# EAGLE library part 5CEBA2F17 (library ic-Altera)
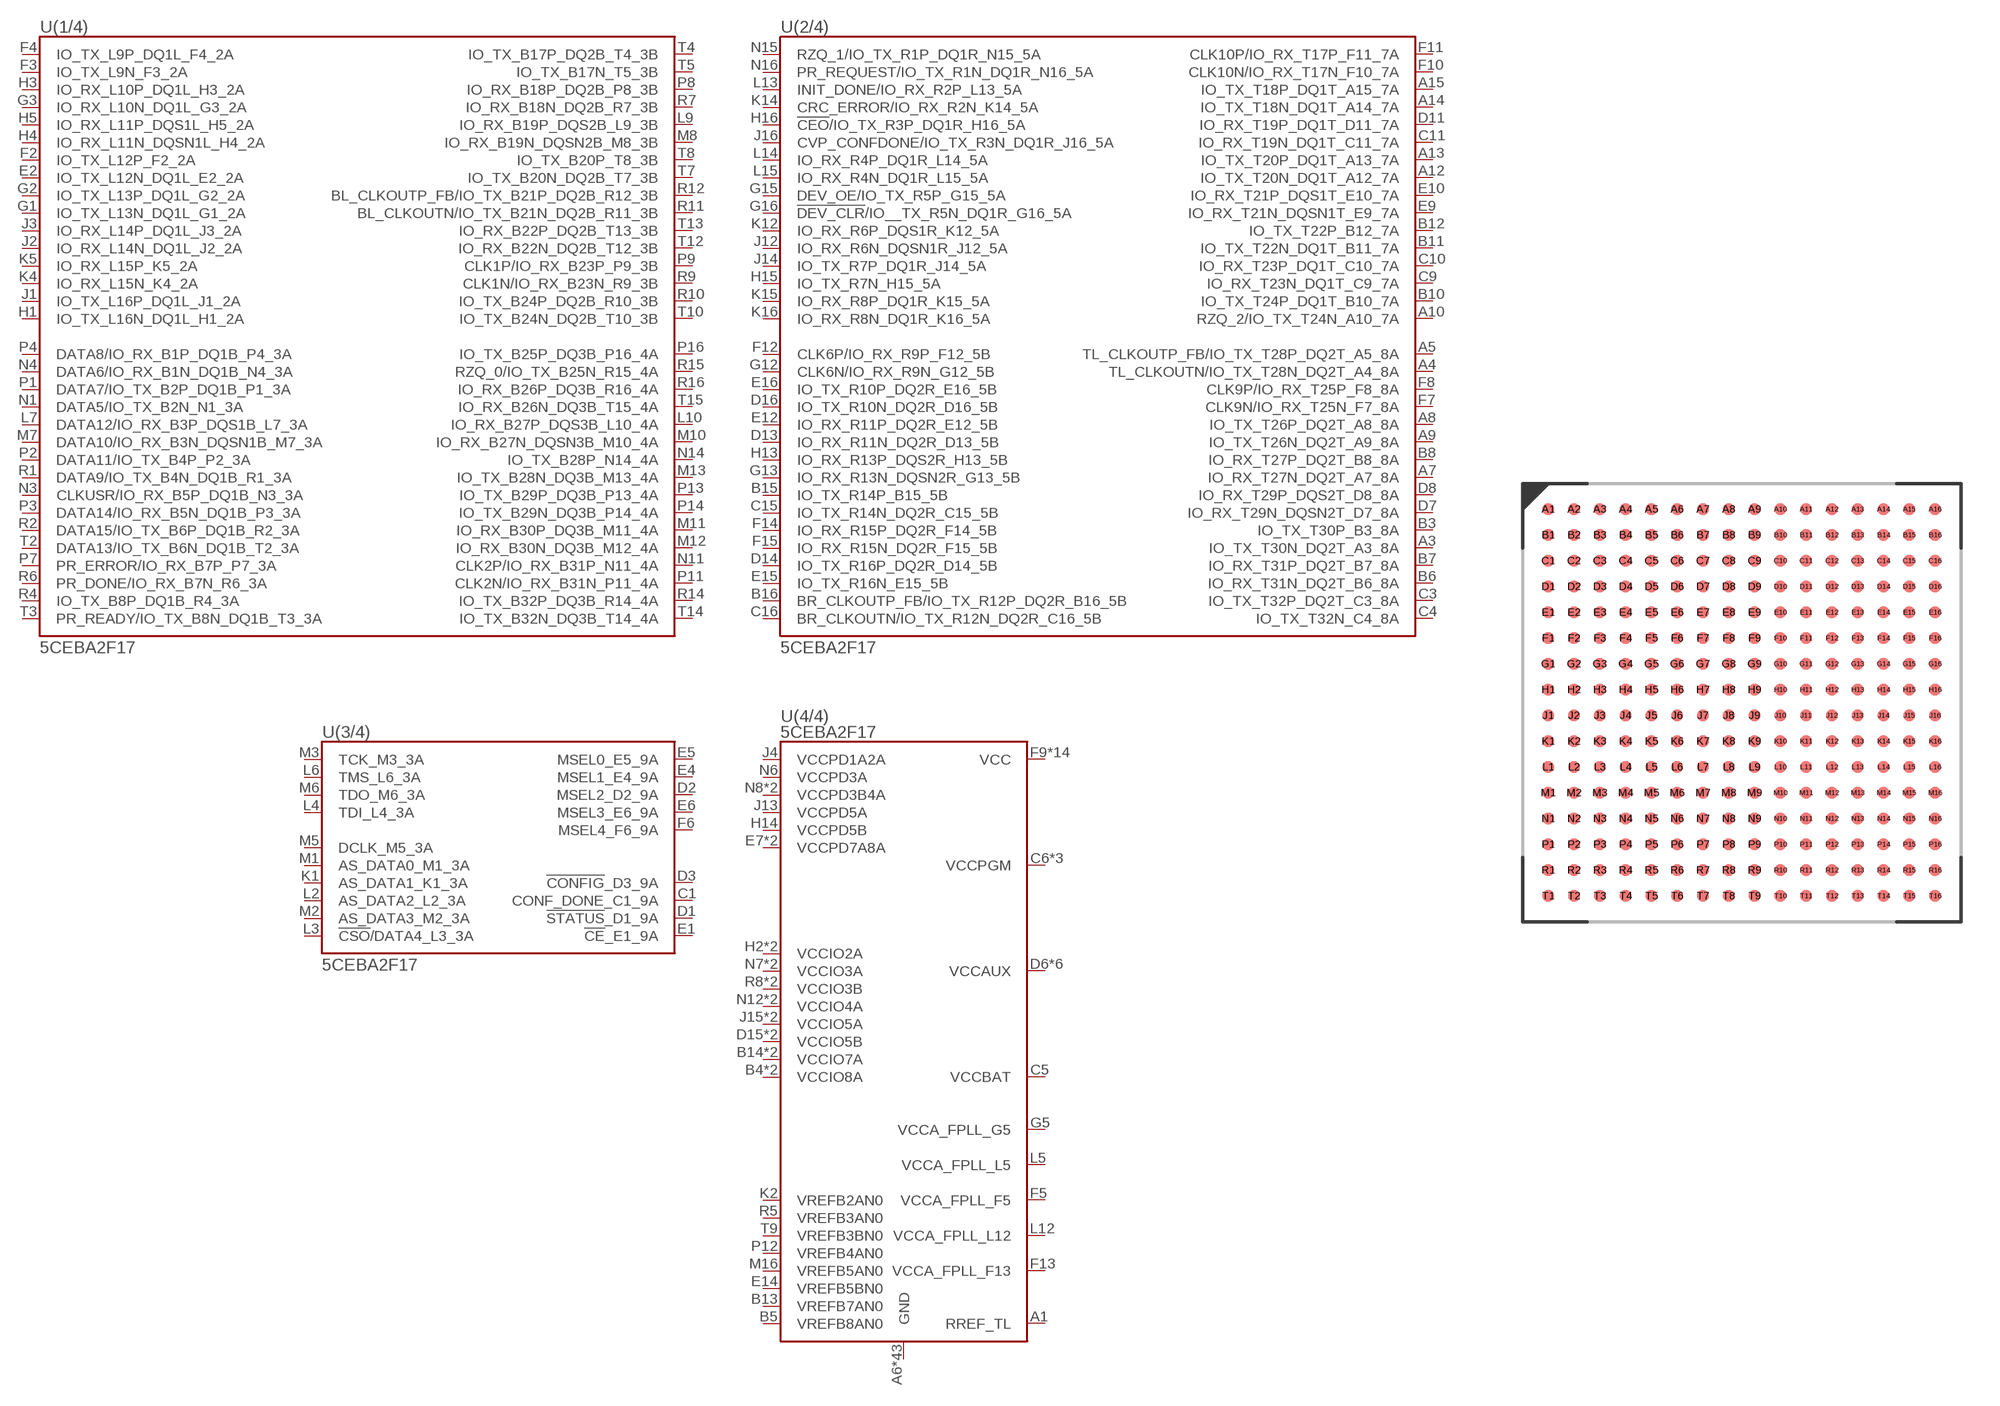
[diagram p8: symbol with the pads of 5CEBA2-F256; footprint 5CEBA2-F256]

Designator prefix U; gates (1/4)=5CEBA2-F256-1 (2/4)=5CEBA2-F256-2 (3/4)=5CEBA2-F256-3 (4/4)=5CEBA2-F256-4

## 5CEBA2F17  [5CEBA2-F256]
A1  (4/4):RREF_TL
A3  (2/4):IO_TX_T30N_DQ2T_A3_8A
A4  (2/4):TL_CLKOUTN/IO_TX_T28N_DQ2T_A4_8A
A5  (2/4):TL_CLKOUTP_FB/IO_TX_T28P_DQ2T_A5_8A
A6  (4/4):GND
A7  (2/4):IO_RX_T27N_DQ2T_A7_8A
A8  (2/4):IO_TX_T26P_DQ2T_A8_8A
A9  (2/4):IO_TX_T26N_DQ2T_A9_8A
A10  (2/4):RZQ_2/IO_TX_T24N_A10_7A
A11  (4/4):GND
A12  (2/4):IO_TX_T20N_DQ1T_A12_7A
A13  (2/4):IO_TX_T20P_DQ1T_A13_7A
A14  (2/4):IO_TX_T18N_DQ1T_A14_7A
A15  (2/4):IO_TX_T18P_DQ1T_A15_7A
A16  (4/4):GND
B1  (4/4):GND
B3  (2/4):IO_TX_T30P_B3_8A
B4  (4/4):VCCIO8A
B5  (4/4):VREFB8AN0
B6  (2/4):IO_RX_T31N_DQ2T_B6_8A
B7  (2/4):IO_RX_T31P_DQ2T_B7_8A
B8  (2/4):IO_RX_T27P_DQ2T_B8_8A
B9  (4/4):GND
B10  (2/4):IO_TX_T24P_DQ1T_B10_7A
B11  (2/4):IO_TX_T22N_DQ1T_B11_7A
B12  (2/4):IO_TX_T22P_B12_7A
B13  (4/4):VREFB7AN0
B14  (4/4):VCCIO7A
B15  (2/4):IO_TX_R14P_B15_5B
B16  (2/4):BR_CLKOUTP_FB/IO_TX_R12P_DQ2R_B16_5B
C1  (3/4):CONF_DONE_C1_9A
C2  (4/4):GND
C3  (2/4):IO_TX_T32P_DQ2T_C3_8A
C4  (2/4):IO_TX_T32N_C4_8A
C5  (4/4):VCCBAT
C6  (4/4):VCCPGM
C7  (4/4):VCCIO8A
C9  (2/4):IO_RX_T23N_DQ1T_C9_7A
C10  (2/4):IO_RX_T23P_DQ1T_C10_7A
C11  (2/4):IO_RX_T19N_DQ1T_C11_7A
C12  (4/4):VCCIO7A
C14  (4/4):GND
C15  (2/4):IO_TX_R14N_DQ2R_C15_5B
C16  (2/4):BR_CLKOUTN/IO_TX_R12N_DQ2R_C16_5B
D1  (3/4):!STATUS!_D1_9A
D2  (3/4):MSEL2_D2_9A
D3  (3/4):!CONFIG!_D3_9A
D4  (4/4):GND
D5  (4/4):GND
D6  (4/4):VCCAUX
D7  (2/4):IO_RX_T29N_DQSN2T_D7_8A
D8  (2/4):IO_RX_T29P_DQS2T_D8_8A
D9  (4/4):VCCAUX
D10  (4/4):GND
D11  (2/4):IO_RX_T19P_DQ1T_D11_7A
D12  (4/4):VCCAUX
D13  (2/4):IO_RX_R11N_DQ2R_D13_5B
D14  (2/4):IO_TX_R16P_DQ2R_D14_5B
D15  (4/4):VCCIO5B
D16  (2/4):IO_TX_R10N_DQ2R_D16_5B
E1  (3/4):!CE!_E1_9A
E2  (1/4):IO_TX_L12N_DQ1L_E2_2A
E3  (4/4):GND
E4  (3/4):MSEL1_E4_9A
E5  (3/4):MSEL0_E5_9A
E6  (3/4):MSEL3_E6_9A
E7  (4/4):VCCPD7A8A
E8  (4/4):GND
E9  (2/4):IO_RX_T21N_DQSN1T_E9_7A
E10  (2/4):IO_RX_T21P_DQS1T_E10_7A
E11  (4/4):VCCPD7A8A
E12  (2/4):IO_RX_R11P_DQ2R_E12_5B
E13  (4/4):GND
E14  (4/4):VREFB5BN0
E15  (2/4):IO_TX_R16N_E15_5B
E16  (2/4):IO_TX_R10P_DQ2R_E16_5B
F1  (4/4):GND
F2  (1/4):IO_TX_L12P_F2_2A
F3  (1/4):IO_TX_L9N_F3_2A
F4  (1/4):IO_TX_L9P_DQ1L_F4_2A
F5  (4/4):VCCA_FPLL_F5
F6  (3/4):MSEL4_F6_9A
F7  (2/4):CLK9N/IO_RX_T25N_F7_8A
F8  (2/4):CLK9P/IO_RX_T25P_F8_8A
F9  (4/4):VCC
F10  (2/4):CLK10N/IO_RX_T17N_F10_7A
F11  (2/4):CLK10P/IO_RX_T17P_F11_7A
F12  (2/4):CLK6P/IO_RX_R9P_F12_5B
F13  (4/4):VCCA_FPLL_F13
F14  (2/4):IO_RX_R15P_DQ2R_F14_5B
F15  (2/4):IO_RX_R15N_DQ2R_F15_5B
F16  (4/4):GND
G1  (1/4):IO_TX_L13N_DQ1L_G1_2A
G2  (1/4):IO_TX_L13P_DQ1L_G2_2A
G3  (1/4):IO_RX_L10N_DQ1L_G3_2A
G4  (4/4):GND
G5  (4/4):VCCA_FPLL_G5
G6  (4/4):VCC
G7  (4/4):GND
G8  (4/4):VCC
G9  (4/4):GND
G10  (4/4):VCC
G11  (4/4):GND
G12  (2/4):CLK6N/IO_RX_R9N_G12_5B
G13  (2/4):IO_RX_R13N_DQSN2R_G13_5B
G14  (4/4):VCCIO5B
G15  (2/4):DEV_OE/IO_TX_R5P_G15_5A
G16  (2/4):!DEV_CLR!/IO__TX_R5N_DQ1R_G16_5A
H1  (1/4):IO_TX_L16N_DQ1L_H1_2A
H2  (4/4):VCCIO2A
H3  (1/4):IO_RX_L10P_DQ1L_H3_2A
H4  (1/4):IO_RX_L11N_DQSN1L_H4_2A
H5  (1/4):IO_RX_L11P_DQS1L_H5_2A
H6  (4/4):GND
H7  (4/4):VCC
H8  (4/4):GND
H9  (4/4):VCC
H10  (4/4):GND
H11  (4/4):VCC
H12  (4/4):GND
H13  (2/4):IO_RX_R13P_DQS2R_H13_5B
H14  (4/4):VCCPD5B
H15  (2/4):IO_TX_R7N_H15_5A
H16  (2/4):!CEO!/IO_TX_R3P_DQ1R_H16_5A
J1  (1/4):IO_TX_L16P_DQ1L_J1_2A
J2  (1/4):IO_RX_L14N_DQ1L_J2_2A
J3  (1/4):IO_RX_L14P_DQ1L_J3_2A
J4  (4/4):VCCPD1A2A
J5  (4/4):GND
J6  (4/4):VCC
J7  (4/4):GND
J8  (4/4):VCC
J9  (4/4):GND
J10  (4/4):VCC
J11  (4/4):GND
J12  (2/4):IO_RX_R6N_DQSN1R_J12_5A
J13  (4/4):VCCPD5A
J14  (2/4):IO_TX_R7P_DQ1R_J14_5A
J15  (4/4):VCCIO5A
J16  (2/4):CVP_CONFDONE/IO_TX_R3N_DQ1R_J16_5A
K1  (3/4):AS_DATA1_K1_3A
K2  (4/4):VREFB2AN0
K3  (4/4):VCCIO2A
K4  (1/4):IO_RX_L15N_K4_2A
K5  (1/4):IO_RX_L15P_K5_2A
K6  (4/4):GND
K7  (4/4):VCC
K8  (4/4):GND
K9  (4/4):VCC
K10  (4/4):GND
K11  (4/4):VCC
K12  (2/4):IO_RX_R6P_DQS1R_K12_5A
K13  (4/4):GND
K14  (2/4):CRC_ERROR/IO_RX_R2N_K14_5A
K15  (2/4):IO_RX_R8P_DQ1R_K15_5A
K16  (2/4):IO_RX_R8N_DQ1R_K16_5A
L1  (4/4):GND
L2  (3/4):AS_DATA2_L2_3A
L3  (3/4):!CSO!/DATA4_L3_3A
L4  (3/4):TDI_L4_3A
L5  (4/4):VCCA_FPLL_L5
L6  (3/4):TMS_L6_3A
L7  (1/4):DATA12/IO_RX_B3P_DQS1B_L7_3A
L8  (4/4):VCC
L9  (1/4):IO_RX_B19P_DQS2B_L9_3B
L10  (1/4):IO_RX_B27P_DQS3B_L10_4A
L11  (4/4):GND
L12  (4/4):VCCA_FPLL_L12
L13  (2/4):INIT_DONE/IO_RX_R2P_L13_5A
L14  (2/4):IO_RX_R4P_DQ1R_L14_5A
L15  (2/4):IO_RX_R4N_DQ1R_L15_5A
L16  (4/4):VCCIO5A
M1  (3/4):AS_DATA0_M1_3A
M2  (3/4):AS_DATA3_M2_3A
M3  (3/4):TCK_M3_3A
M4  (4/4):GND
M5  (3/4):DCLK_M5_3A
M6  (3/4):TDO_M6_3A
M7  (1/4):DATA10/IO_RX_B3N_DQSN1B_M7_3A
M8  (1/4):IO_RX_B19N_DQSN2B_M8_3B
M9  (4/4):GND
M10  (1/4):IO_RX_B27N_DQSN3B_M10_4A
M11  (1/4):IO_RX_B30P_DQ3B_M11_4A
M12  (1/4):IO_RX_B30N_DQ3B_M12_4A
M13  (1/4):IO_TX_B28N_DQ3B_M13_4A
M14  (4/4):GND
M15  (4/4):VCCPGM
M16  (4/4):VREFB5AN0
N1  (1/4):DATA5/IO_TX_B2N_N1_3A
N2  (4/4):GND
N3  (1/4):CLKUSR/IO_RX_B5P_DQ1B_N3_3A
N4  (1/4):DATA6/IO_RX_B1N_DQ1B_N4_3A
N5  (4/4):VCCAUX
N6  (4/4):VCCPD3A
N7  (4/4):VCCIO3A
N8  (4/4):VCCPD3B4A
N9  (4/4):VCCAUX
N10  (4/4):VCCPD3B4A
N11  (1/4):CLK2P/IO_RX_B31P_N11_4A
N12  (4/4):VCCIO4A
N13  (4/4):VCCAUX
N14  (1/4):IO_TX_B28P_N14_4A
N15  (2/4):RZQ_1/IO_TX_R1P_DQ1R_N15_5A
N16  (2/4):PR_REQUEST/IO_TX_R1N_DQ1R_N16_5A
P1  (1/4):DATA7/IO_TX_B2P_DQ1B_P1_3A
P2  (1/4):DATA11/IO_TX_B4P_P2_3A
P3  (1/4):DATA14/IO_RX_B5N_DQ1B_P3_3A
P4  (1/4):DATA8/IO_RX_B1P_DQ1B_P4_3A
P5  (4/4):GND
P6  (4/4):VCCPGM
P7  (1/4):PR_ERROR/IO_RX_B7P_P7_3A
P8  (1/4):IO_RX_B18P_DQ2B_P8_3B
P9  (1/4):CLK1P/IO_RX_B23P_P9_3B
P10  (4/4):GND
P11  (1/4):CLK2N/IO_RX_B31N_P11_4A
P12  (4/4):VREFB4AN0
P13  (1/4):IO_TX_B29P_DQ3B_P13_4A
P14  (1/4):IO_TX_B29N_DQ3B_P14_4A
P15  (4/4):VCCIO4A
P16  (1/4):IO_TX_B25P_DQ3B_P16_4A
R1  (1/4):DATA9/IO_TX_B4N_DQ1B_R1_3A
R2  (1/4):DATA15/IO_TX_B6P_DQ1B_R2_3A
R3  (4/4):VCCIO3A
R4  (1/4):IO_TX_B8P_DQ1B_R4_3A
R5  (4/4):VREFB3AN0
R6  (1/4):PR_DONE/IO_RX_B7N_R6_3A
R7  (1/4):IO_RX_B18N_DQ2B_R7_3B
R8  (4/4):VCCIO3B
R9  (1/4):CLK1N/IO_RX_B23N_R9_3B
R10  (1/4):IO_TX_B24P_DQ2B_R10_3B
R11  (1/4):BL_CLKOUTN/IO_TX_B21N_DQ2B_R11_3B
R12  (1/4):BL_CLKOUTP_FB/IO_TX_B21P_DQ2B_R12_3B
R13  (4/4):GND
R14  (1/4):IO_TX_B32P_DQ3B_R14_4A
R15  (1/4):RZQ_0/IO_TX_B25N_R15_4A
R16  (1/4):IO_RX_B26P_DQ3B_R16_4A
T1  (4/4):GND
T2  (1/4):DATA13/IO_TX_B6N_DQ1B_T2_3A
T3  (1/4):PR_READY/IO_TX_B8N_DQ1B_T3_3A
T4  (1/4):IO_TX_B17P_DQ2B_T4_3B
T5  (1/4):IO_TX_B17N_T5_3B
T6  (4/4):GND
T7  (1/4):IO_TX_B20N_DQ2B_T7_3B
T8  (1/4):IO_TX_B20P_T8_3B
T9  (4/4):VREFB3BN0
T10  (1/4):IO_TX_B24N_DQ2B_T10_3B
T11  (4/4):VCCIO3B
T12  (1/4):IO_RX_B22N_DQ2B_T12_3B
T13  (1/4):IO_RX_B22P_DQ2B_T13_3B
T14  (1/4):IO_TX_B32N_DQ3B_T14_4A
T15  (1/4):IO_RX_B26N_DQ3B_T15_4A
T16  (4/4):GND

## Footprint 5CEBA2-F256 (pad centres in mm)
smd 0.45 x 0.45: A1 -7.5,7.5; A2 -6.5,7.5; A3 -5.5,7.5; A4 -4.5,7.5; A5 -3.5,7.5; A6 -2.5,7.5; A7 -1.5,7.5; A8 -0.5,7.5; A9 0.5,7.5; A10 1.5,7.5; A11 2.5,7.5; A12 3.5,7.5; A13 4.5,7.5; A14 5.5,7.5; A15 6.5,7.5; A16 7.5,7.5; B1 -7.5,6.5; B2 -6.5,6.5; B3 -5.5,6.5; B4 -4.5,6.5; B5 -3.5,6.5; B6 -2.5,6.5; B7 -1.5,6.5; B8 -0.5,6.5; B9 0.5,6.5; B10 1.5,6.5; B11 2.5,6.5; B12 3.5,6.5; B13 4.5,6.5; B14 5.5,6.5; B15 6.5,6.5; B16 7.5,6.5; C1 -7.5,5.5; C2 -6.5,5.5; C3 -5.5,5.5; C4 -4.5,5.5; C5 -3.5,5.5; C6 -2.5,5.5; C7 -1.5,5.5; C8 -0.5,5.5; C9 0.5,5.5; C10 1.5,5.5; C11 2.5,5.5; C12 3.5,5.5; C13 4.5,5.5; C14 5.5,5.5; C15 6.5,5.5; C16 7.5,5.5; D1 -7.5,4.5; D2 -6.5,4.5; D3 -5.5,4.5; D4 -4.5,4.5; D5 -3.5,4.5; D6 -2.5,4.5; D7 -1.5,4.5; D8 -0.5,4.5; D9 0.5,4.5; D10 1.5,4.5; D11 2.5,4.5; D12 3.5,4.5; D13 4.5,4.5; D14 5.5,4.5; D15 6.5,4.5; D16 7.5,4.5; E1 -7.5,3.5; E2 -6.5,3.5; E3 -5.5,3.5; E4 -4.5,3.5; E5 -3.5,3.5; E6 -2.5,3.5; E7 -1.5,3.5; E8 -0.5,3.5; E9 0.5,3.5; E10 1.5,3.5; E11 2.5,3.5; E12 3.5,3.5; E13 4.5,3.5; E14 5.5,3.5; E15 6.5,3.5; E16 7.5,3.5; F1 -7.5,2.5; F2 -6.5,2.5; F3 -5.5,2.5; F4 -4.5,2.5; F5 -3.5,2.5; F6 -2.5,2.5; F7 -1.5,2.5; F8 -0.5,2.5; F9 0.5,2.5; F10 1.5,2.5; F11 2.5,2.5; F12 3.5,2.5; F13 4.5,2.5; F14 5.5,2.5; F15 6.5,2.5; F16 7.5,2.5; G1 -7.5,1.5; G2 -6.5,1.5; G3 -5.5,1.5; G4 -4.5,1.5; G5 -3.5,1.5; G6 -2.5,1.5; G7 -1.5,1.5; G8 -0.5,1.5; G9 0.5,1.5; G10 1.5,1.5; G11 2.5,1.5; G12 3.5,1.5; G13 4.5,1.5; G14 5.5,1.5; G15 6.5,1.5; G16 7.5,1.5; H1 -7.5,0.5; H2 -6.5,0.5; H3 -5.5,0.5; H4 -4.5,0.5; H5 -3.5,0.5; H6 -2.5,0.5; H7 -1.5,0.5; H8 -0.5,0.5; H9 0.5,0.5; H10 1.5,0.5; H11 2.5,0.5; H12 3.5,0.5; H13 4.5,0.5; H14 5.5,0.5; H15 6.5,0.5; H16 7.5,0.5; J1 -7.5,-0.5; J2 -6.5,-0.5; J3 -5.5,-0.5; J4 -4.5,-0.5; J5 -3.5,-0.5; J6 -2.5,-0.5; J7 -1.5,-0.5; J8 -0.5,-0.5; J9 0.5,-0.5; J10 1.5,-0.5; J11 2.5,-0.5; J12 3.5,-0.5; J13 4.5,-0.5; J14 5.5,-0.5; J15 6.5,-0.5; J16 7.5,-0.5; K1 -7.5,-1.5; K2 -6.5,-1.5; K3 -5.5,-1.5; K4 -4.5,-1.5; K5 -3.5,-1.5; K6 -2.5,-1.5; K7 -1.5,-1.5; K8 -0.5,-1.5; K9 0.5,-1.5; K10 1.5,-1.5; K11 2.5,-1.5; K12 3.5,-1.5; K13 4.5,-1.5; K14 5.5,-1.5; K15 6.5,-1.5; K16 7.5,-1.5; L1 -7.5,-2.5; L2 -6.5,-2.5; L3 -5.5,-2.5; L4 -4.5,-2.5; L5 -3.5,-2.5; L6 -2.5,-2.5; L7 -1.5,-2.5; L8 -0.5,-2.5; L9 0.5,-2.5; L10 1.5,-2.5; L11 2.5,-2.5; L12 3.5,-2.5; L13 4.5,-2.5; L14 5.5,-2.5; L15 6.5,-2.5; L16 7.5,-2.5; M1 -7.5,-3.5; M2 -6.5,-3.5; M3 -5.5,-3.5; M4 -4.5,-3.5; M5 -3.5,-3.5; M6 -2.5,-3.5; M7 -1.5,-3.5; M8 -0.5,-3.5; M9 0.5,-3.5; M10 1.5,-3.5; M11 2.5,-3.5; M12 3.5,-3.5; M13 4.5,-3.5; M14 5.5,-3.5; M15 6.5,-3.5; M16 7.5,-3.5; N1 -7.5,-4.5; N2 -6.5,-4.5; N3 -5.5,-4.5; N4 -4.5,-4.5; N5 -3.5,-4.5; N6 -2.5,-4.5; N7 -1.5,-4.5; N8 -0.5,-4.5; N9 0.5,-4.5; N10 1.5,-4.5; N11 2.5,-4.5; N12 3.5,-4.5; N13 4.5,-4.5; N14 5.5,-4.5; N15 6.5,-4.5; N16 7.5,-4.5; P1 -7.5,-5.5; P2 -6.5,-5.5; P3 -5.5,-5.5; P4 -4.5,-5.5; P5 -3.5,-5.5; P6 -2.5,-5.5; P7 -1.5,-5.5; P8 -0.5,-5.5; P9 0.5,-5.5; P10 1.5,-5.5; P11 2.5,-5.5; P12 3.5,-5.5; P13 4.5,-5.5; P14 5.5,-5.5; P15 6.5,-5.5; P16 7.5,-5.5; R1 -7.5,-6.5; R2 -6.5,-6.5; R3 -5.5,-6.5; R4 -4.5,-6.5; R5 -3.5,-6.5; R6 -2.5,-6.5; R7 -1.5,-6.5; R8 -0.5,-6.5; R9 0.5,-6.5; R10 1.5,-6.5; R11 2.5,-6.5; R12 3.5,-6.5; R13 4.5,-6.5; R14 5.5,-6.5; R15 6.5,-6.5; R16 7.5,-6.5; T1 -7.5,-7.5; T2 -6.5,-7.5; T3 -5.5,-7.5; T4 -4.5,-7.5; T5 -3.5,-7.5; T6 -2.5,-7.5; T7 -1.5,-7.5; T8 -0.5,-7.5; T9 0.5,-7.5; T10 1.5,-7.5; T11 2.5,-7.5; T12 3.5,-7.5; T13 4.5,-7.5; T14 5.5,-7.5; T15 6.5,-7.5; T16 7.5,-7.5